# Altium footprint library Peripherie.PcbLib: 1 footprints
Each footprint in its own frame and in the unit in brackets; x right, y up, seen from the top. Pads: shape width x height; smd on the part's side, far side on the other; paste and mask are expansions set on the pad; w line width, h text height; cw(c..) or ccw(c..) is an arc to the next point about the centre after c.
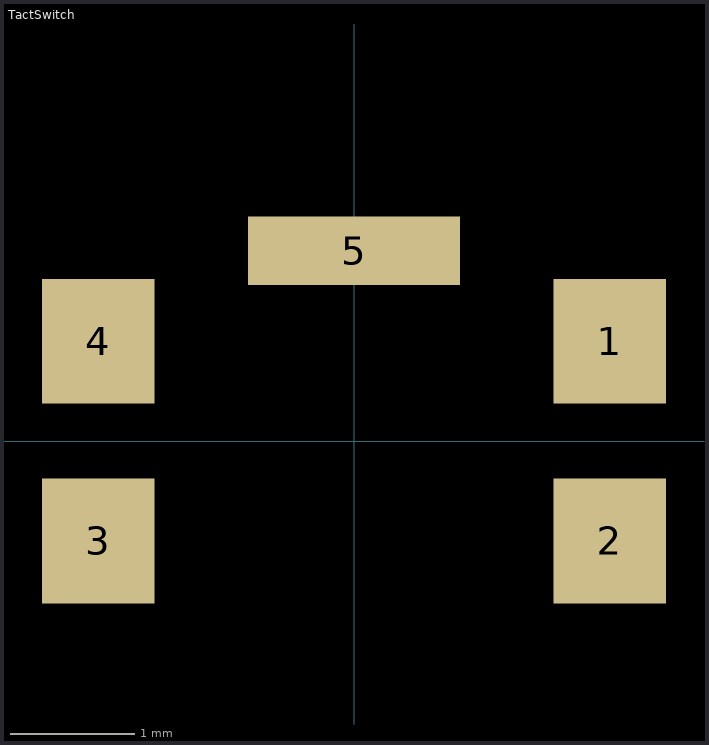
[diagram p0: the footprint, top view; thin cyan lines are the x and y axes]

## TactSwitch [mm]
pads (5):
  rect 0.9x1 smd: 1(2.05,0.8) 2(2.05,-0.8) 3(-2.05,-0.8) 4(-2.05,0.8)
  rect 1.7x0.55 smd: 5(0,1.525)
3D body "Tact Switch Orange.step": height 1.9, standoff 0, extent -2.3,-1.4 2.3,1.6